# EAGLE library part USB-MICROB-6SH (library Domino)
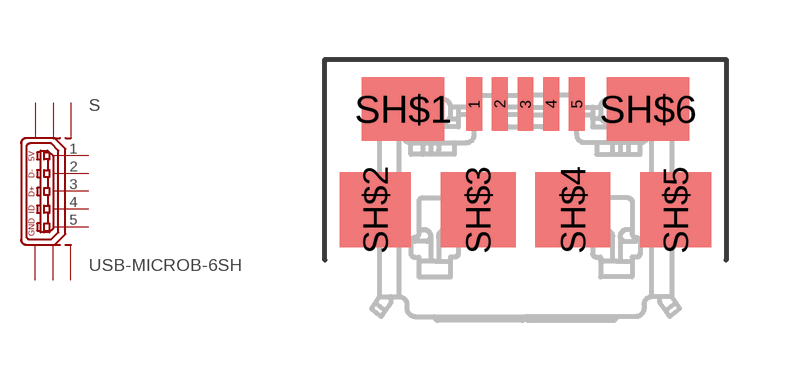
[diagram p8: symbol with the pads of USB-MICROB-6SH; footprint USB-MICROB-6SH]

Designator prefix S

## USB-MICROB-6SH (PARTNO: 10118192)  [USB-MICROB-6SH]
1  1  pas
2  2  pas
3  3  pas
4  4  pas
5  5  pas
SH$1  M0  pas
SH$2  M1  pas
SH$3  M2  pas
SH$4  M4  pas
SH$5  M5  pas
SH$6  M7  pas

## Footprint USB-MICROB-6SH (pad centres in mm)
MicroUSB B Type Receptacle
smd 0.4 x 1.35: 1 -1.3,2.675; 2 -0.65,2.675; 3 0,2.675; 4 0.65,2.675; 5 1.3,2.675
smd 2.1 x 1.6: SH$1 -3.1,2.55; SH$6 3.1,2.55
smd 1.8 x 1.9: SH$2 -3.8,0; SH$5 3.8,0
smd 1.9 x 1.9: SH$3 -1.2,0; SH$4 1.2,0